# EAGLE library part USB-MAFS (library utesla)
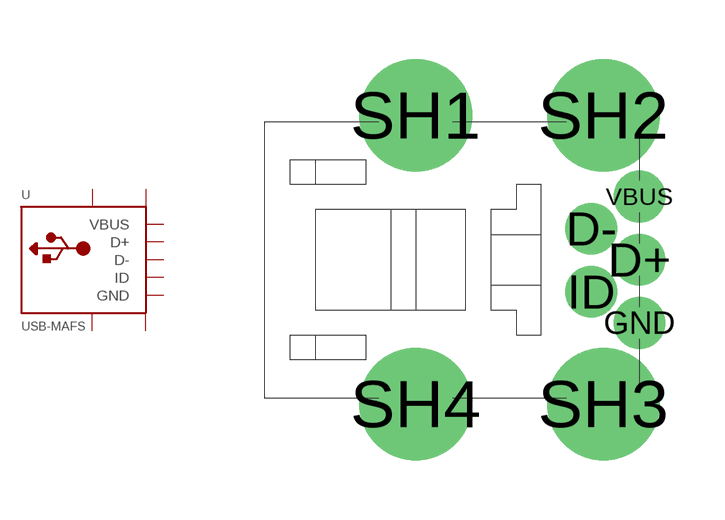
[diagram p6: symbol with the pads of USB-MAFS; footprint USB-MAFS]

Designator prefix -

## USB-MAFS  [USB-MAFS]
D+  D+
D-  D-
GND  GND  pwr
ID  ID
SH1  P$1
SH2  P$2
SH3  P$3
SH4  P$4
VBUS  VBUS  pwr

## Footprint USB-MAFS (pad centres in mm)
drill 0.8: D+ 5.029,-0.635; D- 3.81,0.152; GND 5.029,-2.235; ID 3.81,-1.448; VBUS 5.029,0.965
drill 1.9 pad 2.54: SH1 -0.635,3.023; SH2 4.115,3.023; SH3 4.115,-4.293; SH4 -0.635,-4.293